# Altium schematic symbol library LM358M.SchLib: 1 symbol
Pins are listed as number, name and electrical type; pins without a type are passive.

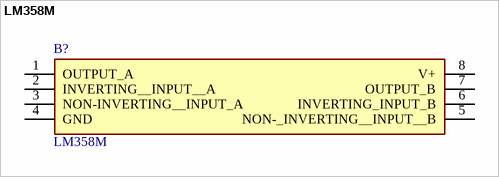
[diagram p0: symbol LM358M]

## LM358M
designator B?
Low Power Dual Operational Amplifiers; Manufacturer_Name: Texas Instruments; Geometry.Height: 1.75mm; Manufacturer_Part_Number: LM358M; Mouser Part Number: 926-LM358M; Mouser Price/Stock: https://www.mouser.co.uk/ProductDetail/Texas-Instruments/LM358M?qs=QbsRYf82W3HovI3qmwfgKw%3D%3D; Arrow Part Number: LM358M; Arrow Price/Stock: https://www.arrow.com/en/products/lm358m/texas-instruments?region=nac; Datasheet Link: http://www.ti.com/general/docs/suppproductinfo.tsp?distId=10&gotoUrl=http%3A%2F%2Fwww.ti.com%2Flit%2Fgpn%2Flm158-n
footprint SOIC127P600X175-8N
pins: 1 OUTPUT_A, 2 INVERTING__INPUT__A, 3 NON-INVERTING__INPUT_A, 4 GND, 5 NON-_INVERTING__INPUT__B, 6 INVERTING_INPUT_B, 7 OUTPUT_B, 8 V+